# Altium footprint library 2N7002-TP.PcbLib: 1 footprints
Each footprint in its own frame and in the unit in brackets; x right, y up, seen from the top. Pads: shape width x height; smd on the part's side, far side on the other; paste and mask are expansions set on the pad; w line width, h text height; cw(c..) or ccw(c..) is an arc to the next point about the centre after c.
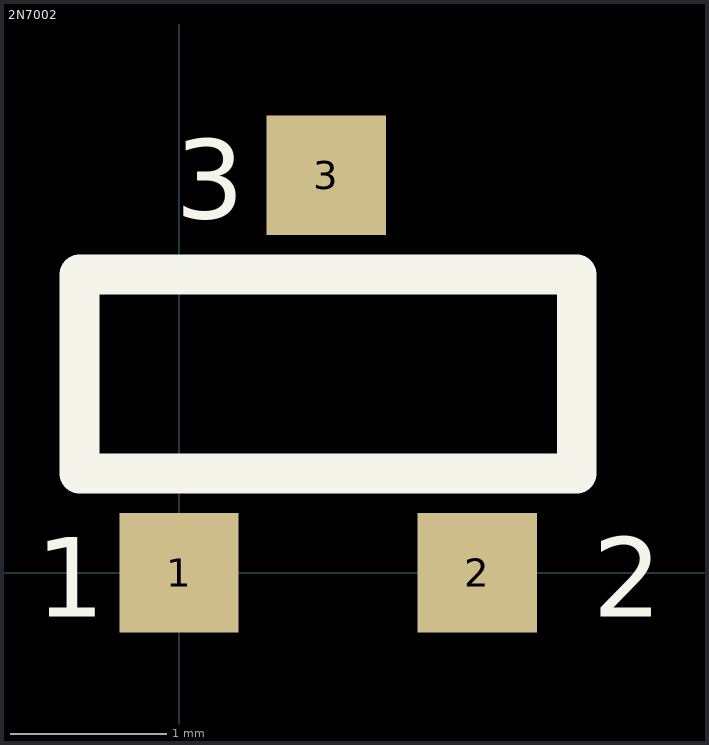
[diagram p0: the footprint, top view; thin cyan lines are the x and y axes]

## 2N7002 [mil]
pads (3):
  rect 30x30 smd: 1(0,0) 2(75,0) 3(37,100)
Top Overlay:
  lines w10: -25,25 -25,75 100,75 100,25 -25,25
  text "1" at -36,-11 h20
  text "2" at 104,-11 h20
  text "3" at -1,89 h20